# Altium footprint library PowerbankLCD.PcbLib: 16 footprints
Each footprint in its own frame and in the unit in brackets; x right, y up, seen from the top. Pads: shape width x height; smd on the part's side, far side on the other; paste and mask are expansions set on the pad; w line width, h text height; cw(c..) or ccw(c..) is an arc to the next point about the centre after c.
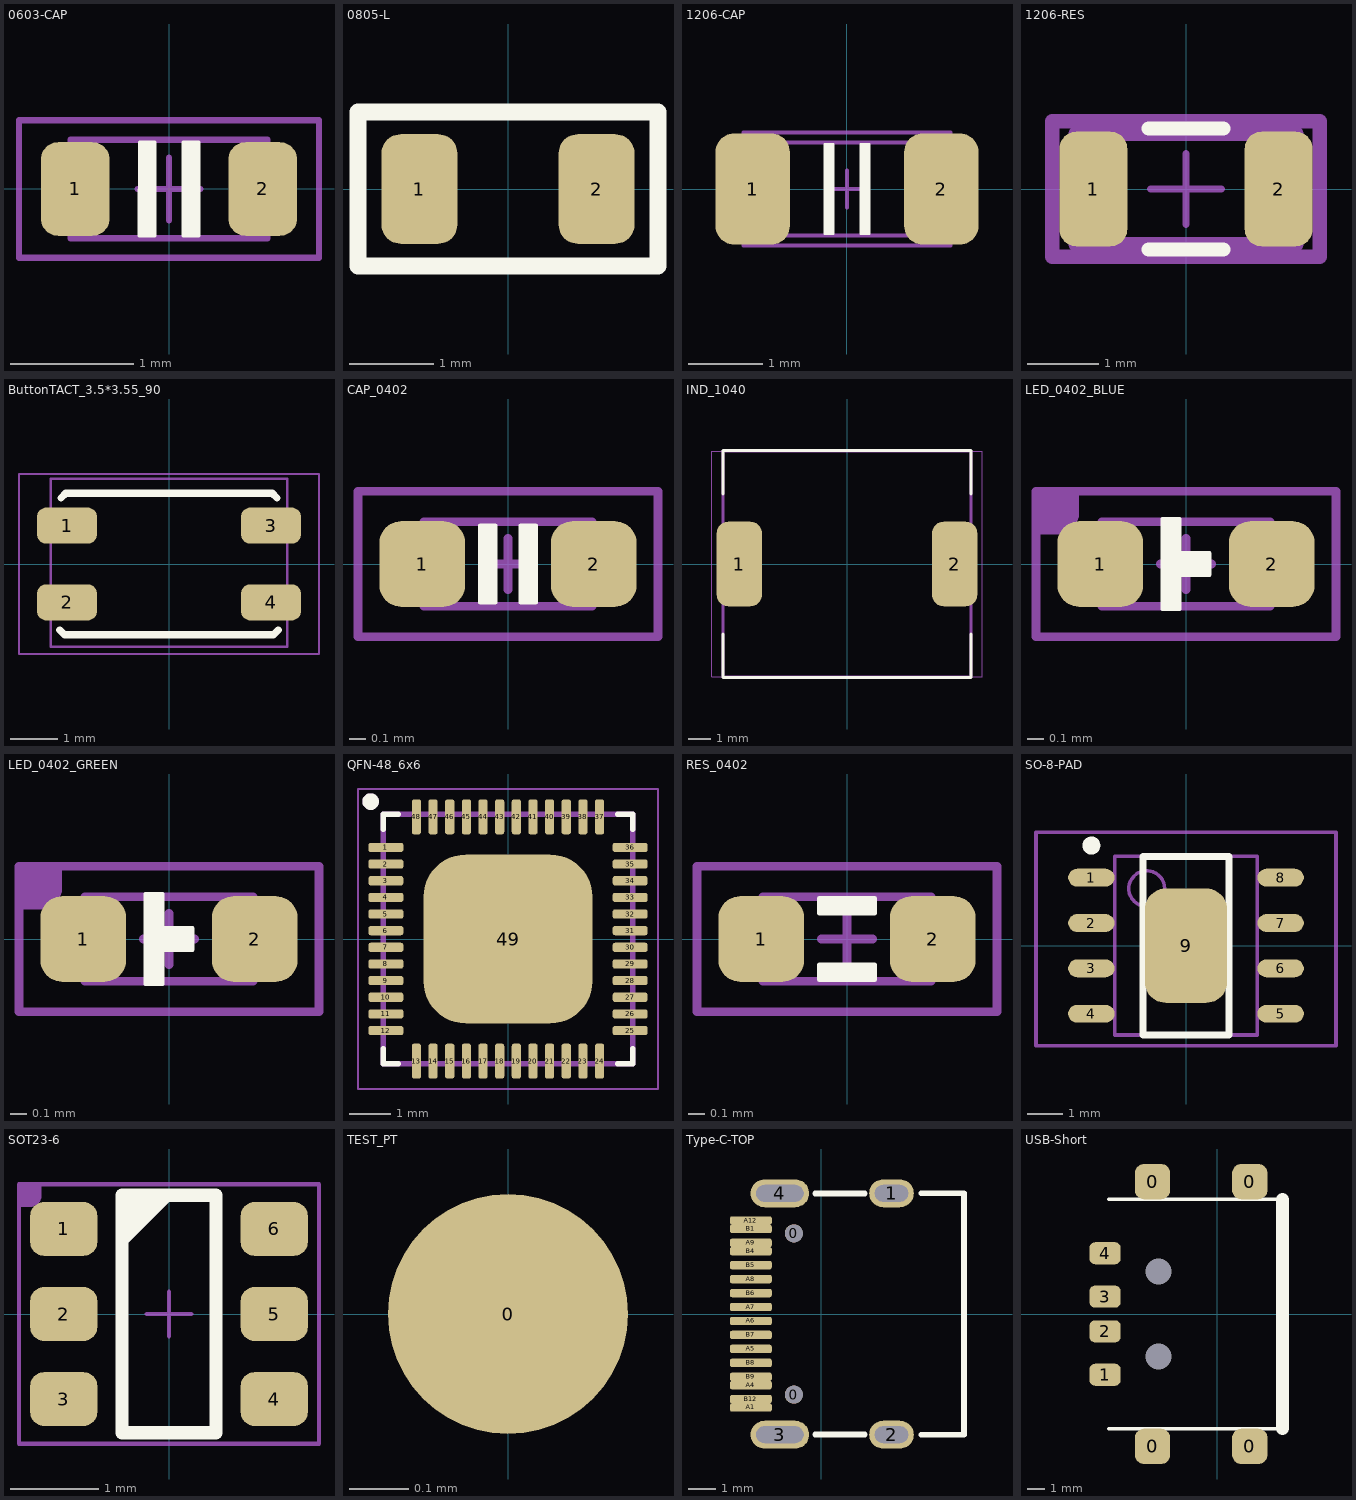
[diagram p0: the footprints below, top view; thin cyan lines are the x and y axes]

## 0603-CAP [mil]
height 31.5
pads (2):
  rrect50% 22x30 smd: 1(-30,0) 2(30,0)
Top Overlay:
  region: 4.5,-15 9.5,-15 9.5,15 4.5,15
  region: -4.5,15 -9.5,15 -9.5,-15 -4.5,-15
  lines w1: -9.5,-15 -4.5,-15 -4.5,15 -9.5,15 -9.5,-15 ; 4.5,-15 4.5,15 9.5,15 9.5,-15 4.5,-15
Mechanical 13:
  lines w2: -10,0 10,0 ; 0,-10 0,10 ; -31.5,-15.75 31.5,-15.75 31.5,15.75 -31.5,15.75 -31.5,-15.75
Mechanical 14:
  lines w2: -48,-22 48,-22 48,22 -48,22 -48,-22
3D body "CAPC1608X08L.step": height 31.5, standoff 0, extent -31.49,-15.74 31.5,15.75

## 0805-L [mm]
pads (2):
  rrect50% 0.9x1.3 smd: 1(-1.05,0) 2(1.05,0)
Top Overlay:
  lines w0.203: -1.778,-0.914 0.508,-0.914 1.778,-0.914 1.778,0.914 0.508,0.914 -1.778,0.914 -1.778,-0.914
3D body: height 0.76, standoff 0, extent -1,-0.6 1,0.6

## 1206-CAP [mm]
height 1.2
pads (2):
  rrect50% 1x1.5 smd: 1(-1.27,0) 2(1.27,0)
Top Overlay:
  region: 0.305,-0.61 0.178,-0.61 0.178,0.61 0.305,0.61
  region: -0.305,0.61 -0.178,0.61 -0.178,-0.61 -0.305,-0.61
  lines w0.025: -0.305,-0.61 -0.305,0.61 -0.178,0.61 -0.178,-0.61 -0.305,-0.61 ; 0.178,-0.61 0.305,-0.61 0.305,0.61 0.178,0.61 0.178,-0.61
Mechanical 13:
  lines w0.051: -0.254,0 0.254,0 ; 0,-0.254 0,0.254 ; -1,-0.625 1,-0.625 1,0.625 -1,0.625 -1,-0.625
Mechanical 14:
  lines w0.051: -1.397,-0.762 1.397,-0.762 1.397,0.762 -1.397,0.762 -1.397,-0.762
3D body "(未保存).step": height 1.5, standoff 0, extent -1.5,-0.75 1.5,0.75

## 1206-RES [mm]
pads (2):
  rrect50% 0.956x1.61 smd paste+0 mask+0: 1(-1.301,0) 2(1.301,0)
Top Overlay:
  lines w0.2: -0.523,-0.85 0.523,-0.85 ; -0.523,0.85 0.523,0.85
Mechanical 10:
  lines w0.2: -1.879,-0.95 -1.879,0.95 1.879,0.95 1.879,-0.95 -1.879,-0.95
Mechanical 12:
  lines w0.2: -1.55,-0.775 -1.55,0.775 1.55,0.775 1.55,-0.775 -1.55,-0.775
Mechanical 15:
  lines w0.1: -0.5,0 0.5,0 ; 0,-0.5 0,0.5
  lines w0.2: -1.879,-0.95 -1.879,0.95 1.879,0.95 1.879,-0.95 -1.879,-0.95
3D body "Res_TE_CRGP1206F1K2_eec.step": height 0.65, standoff 0, extent -1.55,-0.775 1.55,0.775

## ButtonTACT_3.5*3.55_90 [mil]
pads (4):
  rrect50% 50x30 smd: 1(-85,32) 2(-85,-32) 3(85,32) 4(85,-32)
Top Overlay:
  lines w6: -91,-55 -87,-59 87,-59 91,-55 ; -90,55 -85.98,59 86,59 90,55
Mechanical 13:
  lines w2: -98.43,-68.9 98.43,-68.9 98.43,71 -98.43,71 -98.43,-68.9
Mechanical 14:
  lines w2: -125,-75 125,-75 125,75 -125,75 -125,-75
3D body "User Library-KMS231G.STEP": height 55.91, standoff -0.77, extent -90.1,-54.76 91,85

## CAP_0402 [mil]
height 21.65
pads (2):
  rrect50% 20x20 smd: 1(-20,0) 2(20,0)
Top Overlay:
  region: 6.5,-9 3,-9 3,9 6.5,9
  region: -6.5,9 -3,9 -3,-9 -6.5,-9
  lines w1: -6.5,-9 -6.5,9 -3,9 -3,-9 -6.5,-9 ; 3,-9 6.5,-9 6.5,9 3,9 3,-9
Mechanical 13:
  lines w2: -6,0 6,0 ; 0,-6 0,6 ; -19.69,-9.84 19.68,-9.84 19.68,9.84 -19.69,9.84 -19.69,-9.84
Mechanical 14:
  lines w2: -35,-17 35,-17 35,17 -35,17 -35,-17
3D body "CAPC1005X05L.step": height 19.68, standoff 0, extent -19.68,-9.84 19.69,9.85

## IND_1040 [mm]
pads (2):
  rrect50% 2.032x3.81 smd: 1(-4.85,0) 2(4.85,0)
Top Overlay:
  lines w0.127: -5.588,-3.15 -5.588,-5.105 5.588,-5.105 5.588,-3.15 ; -5.588,3.15 -5.588,5.105 5.588,5.105 5.588,3.15
Mechanical 13:
  lines w0.127: -5.588,-5.08 -5.588,5.08 5.588,5.08 5.588,-5.08 -5.588,-5.08
Mechanical 15:
  lines w0.05: -6.096,-5.08 -6.096,5.08 6.096,5.08 6.096,-5.08 -6.096,-5.08
3D body "74437368047.step": height 3.7, standoff -0.1, extent -5.5,-5 5.5,5

## LED_0402_BLUE [mil]
height 31.5
pads (2):
  rrect50% 20x20 smd: 1(-20,0) 2(20,0)
Top Overlay:
  region: -5.5,10.5 -1.5,10.5 -1.5,2.5 5.5,2.5 5.5,-2.5 -1.5,-2.5 -1.5,-10.5 -5.5,-10.5
  lines w1: -5.5,-10.5 -5.5,10.5 -1.5,10.5 -1.5,2.5 5.5,2.5 5.5,-2.5 -1.5,-2.5 -1.5,-10.5 -5.5,-10.5
Mechanical 13:
  lines w2: -6,0 6,0 ; 0,-6 0,6 ; -19.69,-9.84 19.68,-9.84 19.68,9.84 -19.69,9.84 -19.69,-9.84
Mechanical 14:
  region: -35,17 -25,17 -25,12 -25,11.01 -25.76,9.17 -27.17,7.76 -29.01,7 -30,7 -35,7
  lines w2: -35,-17 -35,17 35,17 35,-17 -35,-17
  text ".Designator" at -15,-10 h40
3D body "User Library-led_0402LED0402 blue_.STEP": height 17.72, standoff 0, extent -19.88,-9.84 19.88,9.85

## LED_0402_GREEN [mil]
height 31.5
pads (2):
  rrect50% 20x20 smd: 1(-20,0) 2(20,0)
Top Overlay:
  region: -5.5,10.5 -1.5,10.5 -1.5,2.5 5.5,2.5 5.5,-2.5 -1.5,-2.5 -1.5,-10.5 -5.5,-10.5
  lines w1: -5.5,-10.5 -1.5,-10.5 -1.5,-2.5 5.5,-2.5 5.5,2.5 -1.5,2.5 -1.5,10.5 -5.5,10.5 -5.5,-10.5
Mechanical 13:
  lines w2: -6,0 6,0 ; 0,-6 0,6 ; -19.69,-9.84 -19.69,9.84 19.68,9.84 19.68,-9.84 -19.69,-9.84
Mechanical 14:
  region: -35,17 -25,17 -25,12 -25,11.01 -25.76,9.17 -27.17,7.76 -29.01,7 -30,7 -35,7
  lines w2: -35,-17 -35,17 35,17 35,-17 -35,-17
  text ".Designator" at -15,-10 h40
3D body "User Library-led_0402LED0402 green_.STEP": height 17.72, standoff 0, extent -19.88,-9.84 19.88,9.85

## QFN-48_6x6 [mm]
pads (49):
  rrect50% 0.84x0.22 smd: 1(-2.935,2.2) 2(-2.935,1.8) 3(-2.935,1.4) 4(-2.935,1) 5(-2.935,0.6) 6(-2.935,0.2) 7(-2.935,-0.2) 8(-2.935,-0.6) 9(-2.935,-1) 10(-2.935,-1.4) 11(-2.935,-1.8) 12(-2.935,-2.2) 25(2.935,-2.2) 26(2.935,-1.8) 27(2.935,-1.4) 28(2.935,-1) 29(2.935,-0.6) 30(2.935,-0.2) 31(2.935,0.2) 32(2.935,0.6) 33(2.935,1) 34(2.935,1.4) 35(2.935,1.8) 36(2.935,2.2)
  rrect50% 0.22x0.84 smd: 13(-2.2,-2.935) 14(-1.8,-2.935) 15(-1.4,-2.935) 16(-1,-2.935) 17(-0.6,-2.935) 18(-0.2,-2.935) 19(0.2,-2.935) 20(0.6,-2.935) 21(1,-2.935) 22(1.4,-2.935) 23(1.8,-2.935) 24(2.2,-2.935) 37(2.2,2.935) 38(1.8,2.935) 39(1.4,2.935) 40(1,2.935) 41(0.6,2.935) 42(0.2,2.935) 43(-0.2,2.935) 44(-0.6,2.935) 45(-1,2.935) 46(-1.4,2.935) 47(-1.8,2.935) 48(-2.2,2.935)
  rrect50% 4.064x4.064 smd paste-3: 49(0,0)
Top Overlay:
  circle w0.2: c-3.302,3.302 r0.1
  lines w0.127: -3,-2.63 -3,-3 -2.63,-3 ; -3,2.63 -3,3 -2.63,3 ; 2.63,-3 3,-3 3,-2.63 ; 2.63,3 3,3 3,2.63
Top Paste:
  region: -0.42,0.42 -1.88,0.42 -1.88,1.88 -0.42,1.88
  region: 1.88,0.42 0.42,0.42 0.42,1.88 1.88,1.88
  region: -0.42,-1.88 -1.88,-1.88 -1.88,-0.42 -0.42,-0.42
  region: 1.88,-1.88 0.42,-1.88 0.42,-0.42 1.88,-0.42
Mechanical 13:
  circle w0.2: c-3.302,3.302 r0.1
  lines w0.127: -3,-3 3,-3 3,3 -3,3 -3,-3
Mechanical 15:
  lines w0.05: -3.605,-3.605 3.605,-3.605 3.605,3.605 -3.605,3.605 -3.605,-3.605
3D body "step_temp.STEP": height 0.9, standoff 0, extent -3,-3 3,3

## RES_0402 [mil]
height 13.78
pads (2):
  rrect50% 20x20 smd: 1(-20,0) 2(20,0)
Top Overlay:
  region: -6.5,9.5 6.5,9.5 6.5,6 -6.5,6
  region: 6.5,-9.5 -6.5,-9.5 -6.5,-6 6.5,-6
  lines w1: -6.5,-9.5 -6.5,-6 6.5,-6 6.5,-9.5 -6.5,-9.5 ; -6.5,6 6.5,6 6.5,9.5 -6.5,9.5 -6.5,6
Mechanical 13:
  lines w2: -6,0 6,0 ; 0,-6 0,6 ; -19.69,-9.84 19.68,-9.84 19.68,9.84 -19.69,9.84 -19.69,-9.84
Mechanical 14:
  lines w2: -35,-17 -35,17 35,17 35,-17 -35,-17
3D body "RESC1005X03L.step": height 13.78, standoff 0, extent -19.68,-9.84 19.69,9.85

## SO-8-PAD [mm]
pads (9):
  oval 1.3x0.5 smd: 1(-2.65,1.905) 2(-2.65,0.635) 3(-2.65,-0.635) 4(-2.65,-1.905) 5(2.65,-1.905) 6(2.65,-0.635) 7(2.65,0.635) 8(2.65,1.905)
  rrect50% 2.3x3.2 smd: 9(0,0)
Top Overlay:
  circle w0.25: c-2.65,2.805 r0.125
  lines w0.2: -1.2,-2.5 -1.2,2.5 1.2,2.5 1.2,-2.5 -1.2,-2.5
Mechanical 13:
  circle w0.1: c-1.1,1.6 r0.5
  lines w0.1: -2,-2.5 -2,2.5 2,2.5 2,-2.5 -2,-2.5
Mechanical 15:
  lines w0.1: -0.5,0 0.5,0 ; 0,-0.5 0,0.5 ; -4.2,-2.8 -4.2,3.175 4.2,3.175 4.2,-2.8 -4.2,-2.8
3D body "SW3DPS-SO-8-DEFAULT.STEP": height 1.45, standoff 0, extent -2.889,-2.438 2.889,2.464

## SOT23-6 [mil]
height 62.99
pads (6):
  rrect50% 30x24 smd: 1(-47,38) 2(-47,0) 3(-47,-38) 4(47,-38) 5(47,0) 6(47,38)
Top Overlay:
  region: -21,53 3,53 -21,29
  lines w6: -21,-53 -21,53 21,53 21,-53 -21,-53
Mechanical 13:
  lines w2: -10,0 10,0 ; 0,-10 0,10
Mechanical 14:
  region: -67,58 -57,58 -57,53 -57,52.01 -57.76,50.17 -59.17,48.76 -61.01,48 -62,48 -67,48
  lines w2: -67,-58 -67,58 67,58 67,-58 -67,-58
  text ".Designator" at -41,-25 h100
3D body "User Library-SOT23-6-2.STEP": height 57.09, standoff 0, extent -55.11,-57.09 55.12,57.09

## TEST_PT [mil]
pads (1):
  rrect100% 16x16 smd: 0(0,0.01)

## Type-C-TOP [mm]
pads (22):
  round 0.65 hole 0.65: 0(-0.98,-2.89) 0(-0.98,2.89)
  oval 1.6x1 hole 0.6 slot 1.2 at 0 deg: 1(2.52,4.325) 2(2.52,-4.325)
  oval 2.1x1 hole 0.6 slot 1.7 at 0 deg: 3(-1.48,-4.325) 4(-1.48,4.325)
  rrect50% 1.5x0.3 smd: A1(-2.52,-3.35) A4(-2.52,-2.55) A5(-2.52,-1.25) A6(-2.52,-0.25) A7(-2.52,0.25) A8(-2.52,1.25) A9(-2.52,2.55) A12(-2.52,3.35) B1(-2.52,3.05) B4(-2.52,2.25) B5(-2.52,1.75) B6(-2.52,0.75) B7(-2.52,-0.75) B8(-2.52,-1.75) B9(-2.52,-2.25) B12(-2.52,-3.05)
Top Overlay:
  lines w0.203: -0.218,-4.318 1.56,-4.318 ; -0.218,4.318 1.56,4.318 ; 3.592,-4.325 5.12,-4.325 5.12,4.325 3.592,4.325
3D body "1.step": height 3.26, standoff -1, extent -2.568,-4.475 5.182,4.475

## USB-Short [mm]
pads (10):
  rrect50% 2.032x2.032 smd: 0(-3.738,-7.625) 0(-3.738,7.625) 0(1.862,-7.625) 0(1.862,7.625)
  rrect50% 1.8x1.27 smd: 1(-6.476,-3.5) 2(-6.476,-1) 3(-6.476,1) 4(-6.476,3.5)
  round 0.6 hole 1.5 unplated: MH1(-3.4,2.45) MH2(-3.4,-2.45)
Top Overlay:
  lines w0.2: -6.25,-6.6 -0.6,-6.6 3.75,-6.6 ; -6.25,6.6 -0.6,6.6 3.75,6.6
  lines w0.762: 3.75,-6.6 3.75,6.6
3D body "1.stp": height 6.4, standoff -0.1, extent -7.252,-8.618 3.81,8.618